# Altium schematic symbol library MAX77659AENV+.SchLib: 1 symbol
Pins are listed as number, name and electrical type; pins without a type are passive.

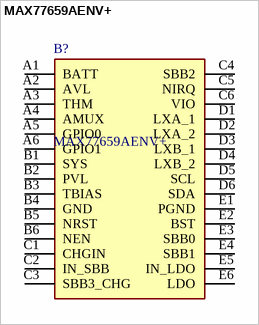
[diagram p0: symbol MAX77659AENV+]

## MAX77659AENV+
designator B?
Power Management Specialized - PMIC Single Ind PMIC for a switching mode charger & 3 buck-boost outputs; Manufacturer_Name: Analog Devices; Geometry.Height: 0.5mm; Mouser Part Number: 700-MAX77659AENV+; Mouser Price/Stock: https://www.mouser.co.uk/ProductDetail/Maxim-Integrated/MAX77659AENV%2b?qs=Wj%2FVkw3K%252BMDJpM07aXge7g%3D%3D; Manufacturer_Part_Number: MAX77659AENV+; Datasheet Link: https://www.mouser.cn/datasheet/2/256/MAX77659-2529092.pdf
footprint BGA30C40P6X5_255X237X50
pins: A1 BATT, A2 AVL, A3 THM, A4 AMUX, A5 GPIO0, A6 GPIO1, B1 SYS, B2 PVL, B3 TBIAS, B4 GND, B5 NRST, B6 NEN, C1 CHGIN, C2 IN_SBB, C3 SBB3_CHG, C4 SBB2, C5 NIRQ, C6 VIO, D1 LXA_1, D2 LXA_2, D3 LXB_1, D4 LXB_2, D5 SCL, D6 SDA, E1 PGND, E2 BST, E3 SBB0, E4 SBB1, E5 IN_LDO, E6 LDO